# EAGLE library part G6S-2-5VDC (library G6S-2-5VDC)
Signal Relay, 5 VDC, DPDT, 2 A, G6S Series, Through Hole, Non Latching Source: Datasheet <https://www.ecb.omron.com.cn/product-detail?partId=19056>
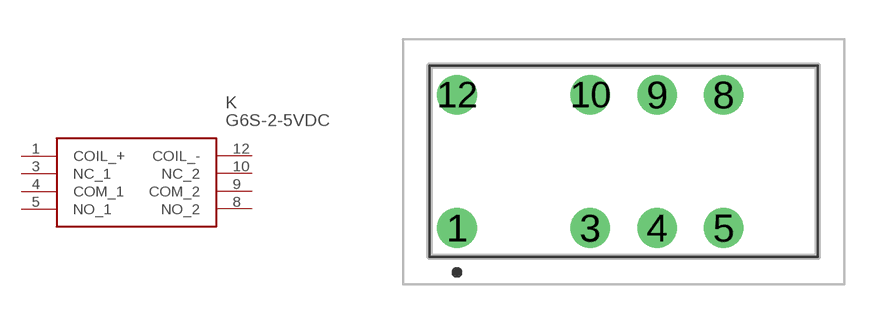
[diagram p0: symbol with the pads of G6S25VDC; footprint G6S25VDC]

Designator prefix K

## G6S-2-5VDC (Description: Signal Relay, 5 VDC, DPDT, 2 A, G6S Series, Through Hole, Non Latching; Height: 9.4mm; Manufacturer_Name: Omron Electronics; Manufacturer_Part_Number: G6S-2-5VDC)  [G6S25VDC]
1  COIL_+
3  NC_1
4  COM_1
5  NO_1
8  NO_2
9  COM_2
10  NC_2
12  COIL_-

## Footprint G6S25VDC (pad centres in mm)
G6S-2
drill 1 pad 1.5: 1 0,0; 3 5.08,0; 4 7.62,0; 5 10.16,0; 8 10.16,5.08; 9 7.62,5.08; 10 5.08,5.08; 12 0,5.08